# EAGLE library part LMP8481 (library LMP8481)
LMP8481MM-H/NOPB 100V/V
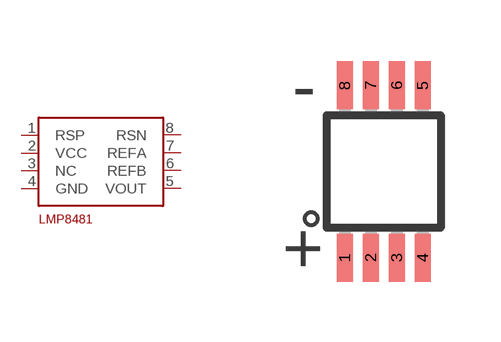
[diagram p0: symbol with the pads of S-PDSO-G08; footprint S-PDSO-G08]

Designator prefix -

## LMP8481-H  [S-PDSO-G08]
1  RSP
2  VCC
3  NC
4  GND
5  VOUT
6  REFB
7  REFA
8  RSN

## Footprint S-PDSO-G08 (pad centres in mm)
DGN (S-PDSO-G8) PowerPAD (TM) Plastic Small-Outline Package Source: http://focus.ti.com/lit/ds/symlink/ths4211.pdf
smd 0.4 x 1.2: 1 -0.975,-2.157; 2 -0.325,-2.157; 3 0.325,-2.157; 4 0.975,-2.157; 5 0.975,2.157; 6 0.325,2.157; 7 -0.325,2.157; 8 -0.975,2.157